# EAGLE library part 4PDT_SWITCH (library shit)
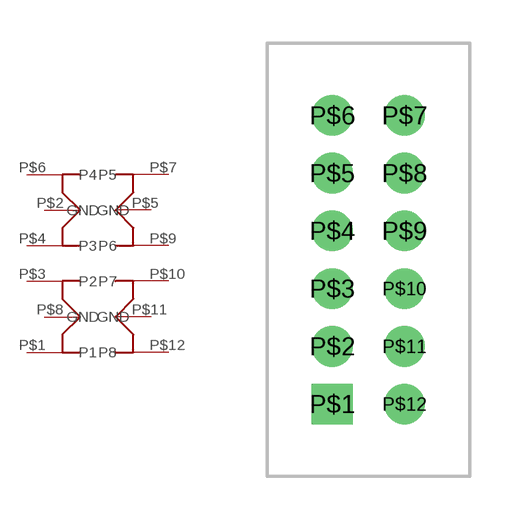
[diagram p7: symbol with the pads of MMS42; footprint MMS42]

Designator prefix -

## 4PDT_SWITCH  [MMS42]
P$1  P1
P$2  GND
P$3  P2
P$4  P3
P$5  GND
P$6  P4
P$7  P5
P$8  GND
P$9  P6
P$10  P7
P$11  GND
P$12  P8

## Footprint MMS42 (pad centres in mm)
drill 0.9 square: P$1 0,0
drill 0.9: P$2 0,2; P$3 0,4; P$4 0,6; P$5 0,8; P$6 0,10; P$7 2.5,10; P$8 2.5,8; P$9 2.5,6; P$10 2.5,4; P$11 2.5,2; P$12 2.5,0